# EAGLE library part BQ40Z60 (library ORBiT-IC-TI)
TI bq40z60 Complete Multi-Cell Battery Manager | Battery Fuel (Gas) Gauge The Texas Instruments bq40z60 device is a Programmable Battery Management Unit that integrates battery charging control output, gas gauging, and protection for completely autonomous operation of 2-series to 4-series cell Li-Ion and Li-Polymer battery packs. The architecture enables internal communication between the fuel gauging processor and battery charger controller to optimize the charging profile based on the external load conditions and power path source management during load transients and adaptor current limitations in the system. The charging current efficiency is scalable for power transfer based on the external components, such as the NFETs, inductor, and sensing resistor. The device provides an array of battery and system safety functions, including overcurrent in discharge, short circuit in charge, and short circuit in discharge protection for the battery, as well as FET protection for the N-CH FETs, internal AFE watchdog, and cell disconnection detection. Through firmware, the device can provide a larger array of protection features including overvoltage, undervoltage, overtemperature, and more. Features: Fully Integrated 2-Series to 4-Series Cell Li-Ion or Li-Polymer Battery Management Unit Input Voltage Range on Pack+: 2.5 V to 25 V Battery Charger Efficiency > 92% Battery Charger Operation Range: 4 V to 25 V Battery Charger, 1-MHz Synchronous Buck Controller for External NFETs Soft Start to Limit In-Rush Current Current Limit Protection for External Switches Programmable Charging Supports JEITA/Enhanced Charging Modes Fuel Gauging High Resolution 16-Bit Integrator for Coulomb Counter ADC, 16-Bit for Precision V, I, and T Measurements with 16-Channel Multiplexer Support for Simultaneous CC and ADC Sampling (Power Conversion) Supports Two-Wire SMBus v2.0 Interface with Accelerated 400-kHz Programming Option SHA-1 Hash Message Authentication Code (HMAC) Responder for Increased Battery Pack Security Split Key (2 × 64) Stored in Secure Memory Supports Field Updates AFE Protection Programmable Current Protection Overcurrent in Discharge Short-Circuit Current in Charge Short-Circuit Current in Discharge N-FET High-Side Protection FET Drive Support for Four LEDs Thermistor inputs for NTC Compact 32-Pin QFN Package (RHB) Technical data: Complete Multi-Cell Battery Manager | Battery Fuel (Gas) Gauge <http://www.ti.com/product/BQ40Z60>
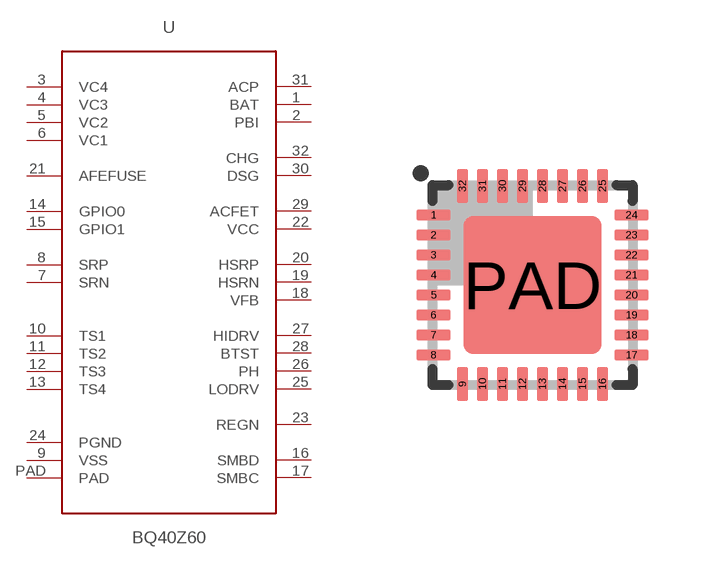
[diagram p3: symbol with the pads of QFN32-5X5; footprint QFN32-5X5]

Designator prefix U

## BQ40Z60 (MF: Texas Instruments; MPN: BQ40Z60RHBT; PN_DIGIKEY: 296-38618-1-ND; PN_MOUSER: 595-BQ40Z60RHBT)  [QFN32-5X5]
1  BAT
2  PBI
3  VC4
4  VC3
5  VC2
6  VC1
7  SRN
8  SRP
9  VSS
10  TS1
11  TS2
12  TS3
13  TS4
14  GPIO0
15  GPIO1
16  SMBD
17  SMBC
18  VFB
19  HSRN
20  HSRP
21  AFEFUSE
22  VCC
23  REGN
24  PGND
25  LODRV
26  PH
27  HIDRV
28  BTST
29  ACFET
30  DSG
31  ACP
32  CHG
PAD  PAD

## Footprint QFN32-5X5 (pad centres in mm)
QFN32, 5 x 5 mm TI S-PVQFN-N32
smd 0.85 x 0.28: 1 -2.475,1.75; 2 -2.475,1.25; 3 -2.475,0.75; 4 -2.475,0.25; 5 -2.475,-0.25; 6 -2.475,-0.75; 7 -2.475,-1.25; 8 -2.475,-1.75; 17 2.475,-1.75; 18 2.475,-1.25; 19 2.475,-0.75; 20 2.475,-0.25; 21 2.475,0.25; 22 2.475,0.75; 23 2.475,1.25; 24 2.475,1.75
smd 0.28 x 0.85: 9 -1.75,-2.475; 10 -1.25,-2.475; 11 -0.75,-2.475; 12 -0.25,-2.475; 13 0.25,-2.475; 14 0.75,-2.475; 15 1.25,-2.475; 16 1.75,-2.475; 25 1.75,2.475; 26 1.25,2.475; 27 0.75,2.475; 28 0.25,2.475; 29 -0.25,2.475; 30 -0.75,2.475; 31 -1.25,2.475; 32 -1.75,2.475
smd 3.45 x 3.45: PAD 0,0